# Altium schematic symbol library Components - 23.04.26 - 10.43.SchLib: 1 symbol
Pins are listed as number, name and electrical type; pins without a type are passive.

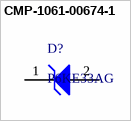
[diagram p0: symbol CMP-1061-00674-1]

## CMP-1061-00674-1
designator D?, comment P6KE33AG
600 W Peak Power Transient Voltage Suppressor, 2-Pin Surmetic(TM) 40, Pb-Free, Bulk Box; Manufacturer: On Semiconductor; IR Max (uA): 5; Direction: Unidirectional; PPK Max (W): 600; V(BR) Typ (V): 33.05; PackageVersion: Rev. O, 09/2005; ComponentLink2URL: http://www.onsemi.com/pub_link/Collateral/P6KE6.8A-D.PDF; Mounting Technology: Through Hole; DatasheetVersion: Rev. 10; PackageDescription: 2-Pin, Axial Lead, Diameter 3.49 mm; ComponentLink1URL: http://www.onsemi.com/; ComponentLink3Description: Package Specification; Packing: Bulk Box; PackageReference: SURMETIC40-2-017AA-01; ComponentLink2Description: Datasheet; RoHS: Pb-Free; ComponentLink1Description: Manufacturer URL; ComponentLink3URL: http://www.onsemi.cn/pub_link/Collateral/017AA.PDF; PartNumber: P6KE33AG
footprint ONSC-SURMETIC40-2-017AA-01 (AXIAL, 2-Leads, Diameter 3.49mm)
pins: 1 K, 2 A